# Altium footprint library SparkFun-Switches.PCBLIB: 50 footprints (part 4 of 5)
Each footprint in its own frame and in the unit in brackets; x right, y up, seen from the top. Pads: shape width x height; smd on the part's side, far side on the other; paste and mask are expansions set on the pad; w line width, h text height; cw(c..) or ccw(c..) is an arc to the next point about the centre after c.
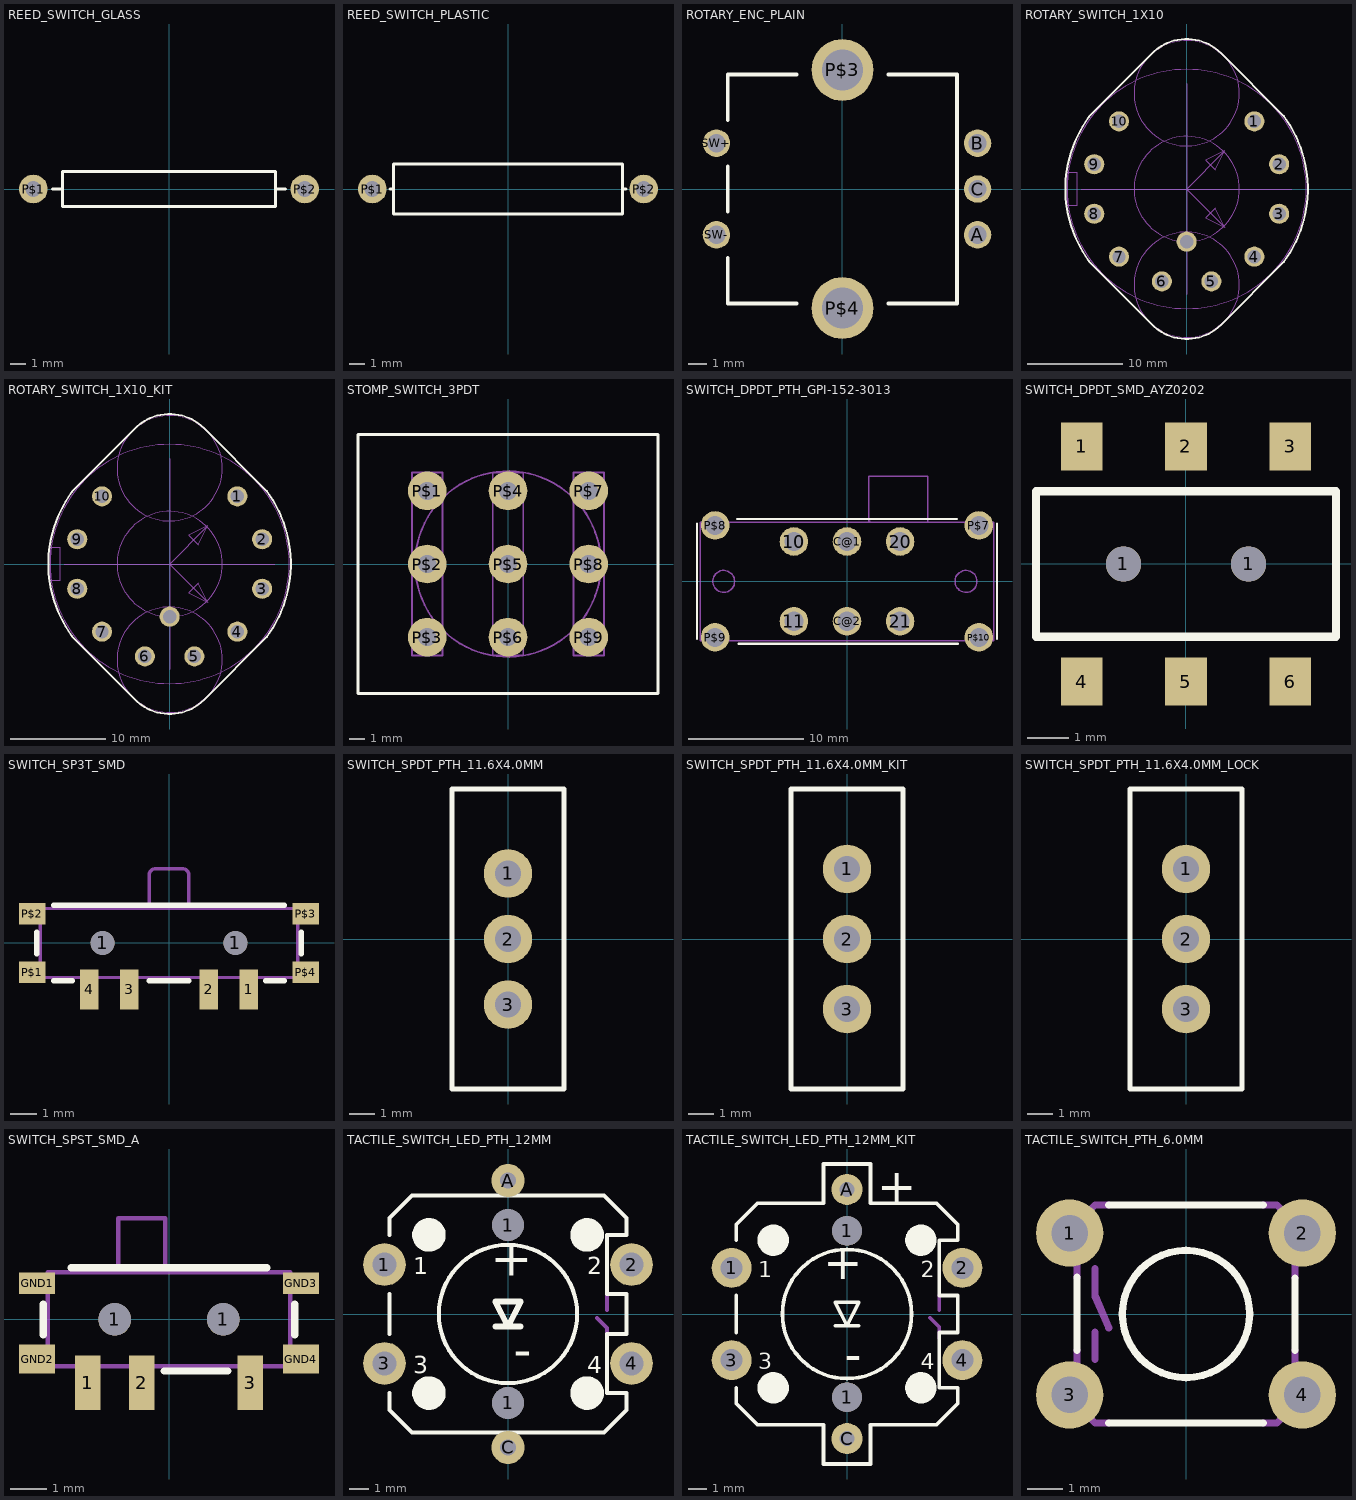
[diagram p3: the footprints below, top view; thin cyan lines are the x and y axes]

## REED_SWITCH_GLASS [mil]
pads (2):
  round 74 hole 40: P$1(-350,0) P$2(350,0)
Top Overlay:
  lines w8: -300,0 -275,0 ; 300,0 275,0 ; -275,0 -275,-45 275,-45 275,0 ; -275,0 -275,45 275,45 275,0

## REED_SWITCH_PLASTIC [mil]
pads (2):
  round 74 hole 40: P$1(-350,0) P$2(350,0)
Top Overlay:
  lines w8: -303.94,0 -295.28,0 ; 303.94,0 295.28,0 ; -295.28,0 -295.28,-64.96 295.28,-64.96 295.28,0 ; -295.28,0 -295.28,64.96 295.28,64.96 295.28,0

## ROTARY_ENC_PLAIN [mil]
pads (7):
  round 60 hole 40: A(295,-100) B(295,100) C(295,0) SW+(-275,100) SW-(-275,-100)
  round 135 hole 90: P$3(0,260) P$4(0,-260)
Top Overlay:
  lines w8: -250,-150 -250,-250 -100,-250 ; -250,-50 -250,50 ; -250,150 -250,250 -100,250 ; 100,-250 250,-250 250,250 100,250

## ROTARY_SWITCH_1X10 [mil]
pads (11):
  round 82.68 hole 55.12: 1(278.39,278.39) 2(380.29,101.9) 3(380.29,-101.9) 4(278.39,-278.39) 5(101.9,-380.29) 6(-101.9,-380.29) 7(-278.39,-278.39) 8(-380.29,-101.9) 9(-380.29,101.9) 10(-278.39,278.39) COMMON(0,-216.54)
Top Overlay:
  lines w8: -415.1,-277.35 cw(c0.92,0) -415.1,277.35 -400,300 -141.42,558.58 cw(c0,417.16) 141.42,558.58 400,300 414.18,278.73 cw(c-3.91,0) 414.18,-278.73 400,-300 141.42,-558.58 cw(c0,-417.16) -141.42,-558.58 -400,-300 -415.1,-277.35
Mechanical 16:
  circle w5: c0,0 r216.54
  circle w5: c0,0 r492.13
  circle w5: c0,393.7 r216.54
  circle w5: c0,-393.7 r216.54
  lines w5: -433.07,0 0,0 ; 0,-433.07 0,0 ; 0,433.07 0,0 ; 433.07,0 0,0 ; 0,0 157.48,-157.48 ; 0,0 157.48,157.48 ; 157.48,-157.48 118.11,-78.74 78.74,-118.11 157.48,-157.48 ; 157.48,157.48 78.74,118.11 118.11,78.74 157.48,157.48 ; -492.13,-68.9 -452.76,-68.9 -452.76,68.9 -492.13,68.9 -492.13,-68.9
  text "1" at 157.48,-196.85 h42.5
  text "10" at 157.48,157.48 h42.5

## ROTARY_SWITCH_1X10_KIT [mil]
pads (11):
  round 82.68 hole 55.12: 1(278.39,278.39) 2(380.29,101.9) 3(380.29,-101.9) 4(278.39,-278.39) 5(101.9,-380.29) 6(-101.9,-380.29) 7(-278.39,-278.39) 8(-380.29,-101.9) 9(-380.29,101.9) 10(-278.39,278.39) COMMON(0,-216.54)
Top Overlay:
  lines w8: -415.1,-277.35 cw(c0.92,0) -415.1,277.35 -400,300 -141.42,558.58 cw(c0,417.16) 141.42,558.58 400,300 414.18,278.73 cw(c-3.91,0) 414.18,-278.73 400,-300 141.42,-558.58 cw(c0,-417.16) -141.42,-558.58 -400,-300 -415.1,-277.35
Top Solder:
  circle w0: c-278.39,278.39 r27.56
  circle w0: c-380.29,101.9 r27.56
  circle w0: c-380.29,-101.9 r27.56
  circle w0: c-278.39,-278.39 r27.56
  circle w0: c0,-216.54 r27.56
  circle w0: c-101.9,-380.29 r27.56
  circle w0: c101.9,-380.29 r27.56
  circle w0: c278.39,-278.39 r27.56
  circle w0: c380.29,-101.9 r27.56
  circle w0: c380.29,101.9 r27.56
  circle w0: c278.39,278.39 r27.56
Bottom Solder:
  circle w0: c-278.39,278.39 r41.34
  circle w0: c-380.29,101.9 r41.34
  circle w0: c-380.29,-101.9 r41.34
  circle w0: c0,-216.54 r41.34
  circle w0: c-278.39,-278.39 r41.34
  circle w0: c-101.9,-380.29 r41.34
  circle w0: c101.9,-380.29 r41.34
  circle w0: c278.39,-278.39 r41.34
  circle w0: c380.29,-101.9 r41.34
  circle w0: c380.29,101.9 r41.34
  circle w0: c278.39,278.39 r41.34
Mechanical 16:
  circle w5: c0,0 r216.54
  circle w5: c0,0 r492.13
  circle w5: c0,393.7 r216.54
  circle w5: c0,-393.7 r216.54
  lines w5: -433.07,0 0,0 ; 0,-433.07 0,0 ; 0,433.07 0,0 ; 433.07,0 0,0 ; 0,0 157.48,-157.48 ; 0,0 157.48,157.48 ; 157.48,-157.48 118.11,-78.74 78.74,-118.11 157.48,-157.48 ; 157.48,157.48 78.74,118.11 118.11,78.74 157.48,157.48 ; -492.13,-68.9 -452.76,-68.9 -452.76,68.9 -492.13,68.9 -492.13,-68.9
  text "1" at 157.48,-196.85 h42.5
  text "10" at 157.48,157.48 h42.5

## STOMP_SWITCH_3PDT [mil]
pads (9):
  round 100 hole 47.24: P$1(-208.66,188.98) P$2(-208.66,0) P$3(-208.66,-188.98) P$4(0,188.98) P$5(0,0) P$6(0,-188.98) P$7(208.66,188.98) P$8(208.66,0) P$9(208.66,-188.98)
Top Overlay:
  lines w8: -387.8,-334.65 -387.8,334.65 387.8,334.65 387.8,-334.65 -387.8,-334.65
Mechanical 16:
  circle w5: c0,0 r240.16
  lines w5: -248.03,-236.22 -169.29,-236.22 -169.29,236.22 -248.03,236.22 -248.03,-236.22 ; -39.37,-236.22 -39.37,236.22 39.37,236.22 39.37,-236.22 -39.37,-236.22 ; 169.29,-236.22 248.03,-236.22 248.03,236.22 169.29,236.22 169.29,-236.22

## SWITCH_DPDT_PTH_GPI-152-3013 [mm]
pads (10):
  round 2.475 hole 1.65: 10(-4.6,3.455) 11(-4.6,-3.455) 20(4.6,3.455) 21(4.6,-3.455) C@1(0,3.455) C@2(0,-3.455) P$7(11.43,4.85) P$8(-11.43,4.85) P$9(-11.43,-4.85) P$10(11.43,-4.85)
Top Overlay:
  lines w0.203: -13,-5 -13,5 ; -9.5,5.4 9.5,5.4 ; -9.4,-5.4 9.6,-5.4 ; 13,-5 13,5
Mechanical 16:
  circle w0.127: c10.31,0 r0.952
  circle w0.127: c-10.69,0 r0.952
  lines w0.127: 2,5.2 1.9,5.2 1.9,9.1 7,9.1 7,5.2 ; -12.7,-5.13 -12.7,5.13 12.7,5.13 12.7,-5.13 -12.7,-5.13

## SWITCH_DPDT_SMD_AYZ0202 [mm]
pads (8):
  rect 1x1.15 smd: 1(-2.5,2.825) 2(0,2.825) 3(2.5,2.825) 4(-2.5,-2.825) 5(0,-2.825) 6(2.5,-2.825)
  round 0.85 hole 0.85: 1(-1.5,0) 1(1.5,0)
Top Overlay:
  lines w0.203: -3.6,-1.75 3.6,-1.75 3.6,1.75 -3.6,1.75 -3.6,-1.75

## SWITCH_SP3T_SMD [mm]
pads (10):
  round 0.9 hole 0.9: 1(-2.5,0) 1(2.5,0)
  rect 0.7x1.5 smd: 1(3,-1.75) 2(1.5,-1.75) 3(-1.5,-1.75) 4(-3,-1.75)
  rect 1x0.8 smd: P$1(-5.15,-1.1) P$2(-5.15,1.1) P$3(5.15,1.1) P$4(5.15,-1.1)
Top Overlay:
  lines w0.203: -4.977,-0.4 -4.977,0.4 ; -4.35,-1.427 -3.65,-1.427 ; -4.35,1.427 4.35,1.427 ; -0.75,-1.427 0.75,-1.427 ; 3.65,-1.427 4.35,-1.427 ; 4.977,-0.4 4.977,0.4
Mechanical 16:
  rectangle: 1.3,-2.2 1.7,-1.3
  rectangle: 2.8,-2.2 3.2,-1.3
  rectangle: -1.7,-2.2 -1.3,-1.3
  rectangle: -3.2,-2.2 -2.8,-1.3
  rectangle: 4.85,0.9 5.35,1.3
  region: -4.85,1.3 -5.35,1.3 -5.35,0.9 -4.85,0.9
  region: -4.85,-0.9 -5.35,-0.9 -5.35,-1.3 -4.85,-1.3
  rectangle: 4.85,-1.3 5.35,-0.9
  lines w0.127: -0.75,1.3 -0.75,2.55 cw(c-0.5,2.55) -0.5,2.8 0.5,2.8 cw(c0.5,2.55) 0.75,2.55 0.75,1.3 ; -4.85,-1.3 4.85,-1.3 4.85,1.3 -4.85,1.3 -4.85,-1.3

## SWITCH_SPDT_PTH_11.6X4.0MM [mil]
pads (3):
  round 74 hole 40: 1(0,100) 2(0,0) 3(0,-100)
Top Overlay:
  lines w8: -85.63,-228.94 85.63,-228.94 85.63,228.94 -85.63,228.94 -85.63,-228.94

## SWITCH_SPDT_PTH_11.6X4.0MM_KIT [mil]
pads (3):
  round 74 hole 40: 1(0,107) 2(0,0) 3(0,-107)
Top Overlay:
  lines w8: -85.63,-228.94 -85.63,228.94 85.63,228.94 85.63,-228.94 -85.63,-228.94
Top Solder:
  region: 0,89.6 -3.4,89.52 -9.75,91.98 -14.67,96.67 -17.42,102.9 -17.5,106.3 -17.59,109.87 -15.02,116.54 -10.1,121.71 -3.57,124.61 0,124.7 3.52,124.64 9.98,121.84 14.88,116.77 17.46,110.22 17.4,106.7 17.37,103.27 14.69,96.95 9.79,92.14 3.43,89.57
  region: 0.1,-124.6 -3.3,-124.68 -9.65,-122.22 -14.57,-117.53 -17.32,-111.3 -17.4,-107.9 -17.49,-104.33 -14.92,-97.66 -10,-92.49 -3.47,-89.59 0.1,-89.5 3.62,-89.56 10.08,-92.36 14.98,-97.43 17.56,-103.98 17.5,-107.5 17.47,-110.93 14.79,-117.25 9.89,-122.06 3.53,-124.63
  region: 0.4,-17.6 -3,-17.68 -9.35,-15.22 -14.27,-10.53 -17.02,-4.3 -17.1,-0.9 -17.19,2.67 -14.62,9.34 -9.7,14.51 -3.17,17.41 0.4,17.5 3.92,17.44 10.38,14.64 15.28,9.57 17.86,3.02 17.8,-0.5 17.77,-3.93 15.09,-10.25 10.19,-15.06 3.83,-17.63
Bottom Solder:
  region: -0.7,72.5 -4.03,72.49 -10.56,73.77 -16.72,76.3 -22.27,79.98 -26.99,84.67 -30.7,90.2 -33.27,96.34 -34.58,102.87 -34.59,106.2 -34.62,109.63 -33.35,116.38 -30.79,122.75 -27.04,128.49 -22.23,133.39 -16.56,137.27 -10.25,139.96 -3.53,141.37 -0.1,141.4 3.33,141.37 10.05,139.96 16.37,137.27 22.04,133.4 26.84,128.49 30.6,122.75 33.16,116.38 34.43,109.63 34.4,106.2 34.33,102.81 32.88,96.19 30.16,89.98 26.28,84.42 21.39,79.73 15.68,76.08 9.36,73.62 2.69,72.43
  region: -0.2,-141.6 -3.55,-141.64 -10.13,-140.41 -16.35,-137.92 -21.96,-134.27 -26.76,-129.59 -30.54,-124.06 -33.18,-117.9 -34.56,-111.35 -34.6,-108 -34.63,-104.51 -33.33,-97.66 -30.72,-91.2 -26.89,-85.36 -22,-80.39 -16.24,-76.47 -9.82,-73.75 -2.99,-72.33 0.5,-72.3 3.94,-72.37 10.67,-73.86 16.97,-76.63 22.61,-80.58 27.38,-85.55 31.08,-91.36 33.58,-97.78 34.77,-104.56 34.7,-108 34.64,-111.37 33.2,-117.97 30.5,-124.15 26.64,-129.69 21.78,-134.37 16.1,-138.01 9.82,-140.48 3.17,-141.67
  region: -0.4,-34.4 -3.73,-34.43 -10.28,-33.17 -16.46,-30.67 -22.04,-27 -26.79,-22.32 -30.53,-16.81 -33.13,-10.66 -34.48,-4.13 -34.5,-0.8 -34.52,2.67 -33.19,9.49 -30.56,15.92 -26.73,21.71 -21.84,26.64 -16.08,30.52 -9.68,33.2 -2.87,34.59 0.6,34.6 3.98,34.55 10.6,33.12 16.81,30.43 22.38,26.58 27.09,21.72 30.76,16.04 33.25,9.74 34.46,3.08 34.41,-0.3 34.38,-3.69 32.98,-10.34 30.32,-16.58 26.5,-22.19 21.65,-26.94 15.96,-30.65 9.66,-33.18 2.99,-34.44
Mechanical 16:
  rectangle: -9,-12 9,12
  rectangle: -9,88 9,112
  rectangle: -9,-112 9,-88

## SWITCH_SPDT_PTH_11.6X4.0MM_LOCK [mil]
pads (3):
  round 74 hole 40: 1(0,107) 2(0,0) 3(0,-107)
Top Overlay:
  lines w8: -85.63,-228.94 85.63,-228.94 85.63,228.94 -85.63,228.94 -85.63,-228.94
Mechanical 16:
  rectangle: -9,-112 9,-88
  rectangle: -9,88 9,112
  rectangle: -9,-12 9,12

## SWITCH_SPST_SMD_A [mm]
pads (9):
  rect 0.7x1.5 smd: 1(-2.25,-1.75) 2(-0.75,-1.75) 3(2.25,-1.75)
  round 0.9 hole 0.9: 1(-1.5,0) 1(1.5,0)
  rect 1x0.6 smd: GND1(-3.65,1) GND3(3.65,1)
  rect 1x0.8 smd: GND2(-3.65,-1.1) GND4(3.65,-1.1)
Top Overlay:
  lines w0.203: -3.477,-0.427 -3.477,0.427 ; -2.7,1.427 2.7,1.427 ; -0.127,-1.427 1.627,-1.427 ; 3.477,-0.427 3.477,0.427
Mechanical 16:
  lines w0.127: -1.4,1.3 -1.4,2.8 -0.1,2.8 -0.1,1.3 ; -1.4,1.3 -3.35,1.3 -3.35,-1.3 3.35,-1.3 3.35,1.3 -0.1,1.3 ; -1.4,1.3 -0.1,1.3

## TACTILE_SWITCH_LED_PTH_12MM [mil]
pads (8):
  round 85 hole 47.24: 1(-246.06,98.43) 2(246.06,98.43) 3(-246.06,-98.43) 4(246.06,-98.43)
  round 62.99 hole 62.99: 1(0,-177.17) 1(0,177.17)
  round 66 hole 31.5: A(0,265.75) C(0,-265.75)
Top Overlay:
  circle w8: c0,0 r137.8
  circle w35.43: c-157.48,157.48 r15.75
  circle w35.43: c157.48,157.48 r15.75
  circle w35.43: c157.48,-157.48 r15.75
  circle w35.43: c-157.48,-157.48 r15.75
  lines w8: -236.22,-157.48 -236.22,-190.94 -190.94,-236.22 190.94,-236.22 236.22,-190.94 236.22,-157.48 196.85,-157.48 196.85,-39.37 236.22,-39.37 236.22,39.37 196.85,39.37 196.85,157.48 236.22,157.48 236.22,190.94 190.94,236.22 -190.94,236.22 -236.22,190.94 -236.22,157.48 ; -236.22,-39.37 -236.22,39.37
  lines w12: -25,-25 0,-25 ; 25,-25 0,-25 ; 0,-25 -25,25 25,25 0,-25
  text "1" at -188.98,78.74 h34
  text "2" at 157.48,78.74 h34
  text "3" at -188.98,-118.11 h34
  text "4" at 157.48,-118.11 h34
  text "+" at 49.5,138 h73.1
  text "-" at 47.5,-51 h73.1
Mechanical 16:
  lines w8: 177.17,-7.87 196.85,-27.56 196.85,-51.18 ; 196.85,7.87 196.85,39.37

## TACTILE_SWITCH_LED_PTH_12MM_KIT [mil]
pads (8):
  round 85 hole 47.24: 1(-246.06,98.43) 2(246.06,98.43) 3(-246.06,-98.43) 4(246.06,-98.43)
  round 62.99 hole 62.99: 1(0,-177.17) 1(0,177.17)
  round 66 hole 31.5: A(0,265.75) C(0,-265.75)
Top Overlay:
  circle w8: c0,0 r137.8
  circle w35.43: c-157.48,157.48 r15.75
  circle w35.43: c157.48,157.48 r15.75
  circle w35.43: c157.48,-157.48 r15.75
  circle w35.43: c-157.48,-157.48 r15.75
  lines w8: -236.22,-157.48 -236.22,-190.94 -190.94,-236.22 -50,-236.22 -50,-320 50,-320 50,-236.22 190.94,-236.22 236.22,-190.94 236.22,-157.48 196.85,-157.48 196.85,-39.37 236.22,-39.37 236.22,39.37 196.85,39.37 196.85,157.48 236.22,157.48 236.22,190.94 190.94,236.22 50,236.22 50,320 -50,320 -50,236.22 -190.94,236.22 -236.22,190.94 -236.22,157.48 ; -236.22,-39.37 -236.22,39.37 ; -25,-25 0,-25 ; 25,-25 0,-25 ; 0,-25 -25,25 25,25 0,-25
  text "1" at -188.98,78.74 h34
  text "2" at 157.48,78.74 h34
  text "3" at -188.98,-118.11 h34
  text "4" at 157.48,-118.11 h34
  text "+" at 33.75,138 h73.1
  text "-" at 31.75,-66.75 h73.1
  text "+" at 64.67,236.02 h73.1
Top Solder:
  region: 0,253 2.59,253 7.36,254.98 11.02,258.64 13,263.41 13,266 13,268.59 11.02,273.36 7.36,277.02 2.59,279 0,279 -2.69,278.9 -7.57,276.66 -11.23,272.72 -13.1,267.69 -13,265 -12.9,262.51 -10.81,258 -7.16,254.62 -2.49,252.9
  region: 0,-278.7 2.59,-278.7 7.36,-276.72 11.02,-273.06 13,-268.29 13,-265.7 13,-263.11 11.02,-258.34 7.36,-254.68 2.59,-252.7 0,-252.7 -2.69,-252.8 -7.57,-255.04 -11.23,-258.98 -13.1,-264.01 -13,-266.7 -12.9,-269.19 -10.81,-273.7 -7.16,-277.08 -2.49,-278.8
  region: -246.2,-119.1 -242,-119.02 -234.31,-115.66 -228.49,-109.61 -225.42,-101.8 -225.5,-97.6 -225.56,-93.54 -228.78,-86.09 -234.6,-80.44 -242.14,-77.44 -246.2,-77.5 -250.43,-77.59 -258.17,-80.99 -264.02,-87.09 -267.09,-94.97 -267,-99.2 -266.91,-103.25 -263.65,-110.66 -257.8,-116.26 -250.25,-119.19
  region: -246.1,77.4 -241.9,77.48 -234.21,80.84 -228.39,86.89 -225.32,94.7 -225.4,98.9 -225.46,102.96 -228.68,110.41 -234.5,116.06 -242.04,119.06 -246.1,119 -250.33,118.91 -258.07,115.51 -263.92,109.41 -266.99,101.53 -266.9,97.3 -266.81,93.25 -263.55,85.84 -257.7,80.24 -250.15,77.31
  region: 246.3,-119.3 250.5,-119.22 258.19,-115.86 264.01,-109.81 267.08,-102 267,-97.8 266.94,-93.74 263.72,-86.29 257.9,-80.64 250.36,-77.64 246.3,-77.7 242.07,-77.79 234.33,-81.19 228.48,-87.29 225.41,-95.17 225.5,-99.4 225.59,-103.45 228.85,-110.86 234.7,-116.46 242.25,-119.39
  region: 246.1,77.5 250.3,77.58 257.99,80.94 263.81,86.99 266.88,94.8 266.8,99 266.74,103.06 263.52,110.51 257.7,116.16 250.16,119.16 246.1,119.1 241.87,119.01 234.13,115.61 228.28,109.51 225.21,101.63 225.3,97.4 225.39,93.35 228.65,85.94 234.5,80.34 242.05,77.41
Bottom Solder:
  drawing of 6 lines, arcs and shapes, not listed
Mechanical 16:
  lines w8: 177.17,-7.87 196.85,-27.56 196.85,-51.18 ; 196.85,7.87 196.85,39.37

## TACTILE_SWITCH_PTH_6.0MM [mil]
pads (4):
  round 74 hole 40: 1(-128,89) 2(128,89) 3(-128,-89) 4(128,-89)
Top Overlay:
  circle w8: c0,0 r70
  lines w8: -120,-40 -120,40.47 ; -85,-120 85,-120 ; -85,120 85,120 ; 120,-40 120,39.29
Mechanical 16:
  lines w8: -120,-40 -120,-100 -100,-120 -85,-120 ; -120,40 -120,100 -100,120 -85,120 ; -100,-50 -100,-20 ; -100,50 -100,20 -85,-15 ; 85,-120 100,-120 120,-100 120,-40 ; 85,120 100,120 120,100 120,40